# Altium footprint library OWMR.PcbLib: 36 footprints (part 1 of 3)
Each footprint in its own frame and in the unit in brackets; x right, y up, seen from the top. Pads: shape width x height; smd on the part's side, far side on the other; paste and mask are expansions set on the pad; w line width, h text height; cw(c..) or ccw(c..) is an arc to the next point about the centre after c.
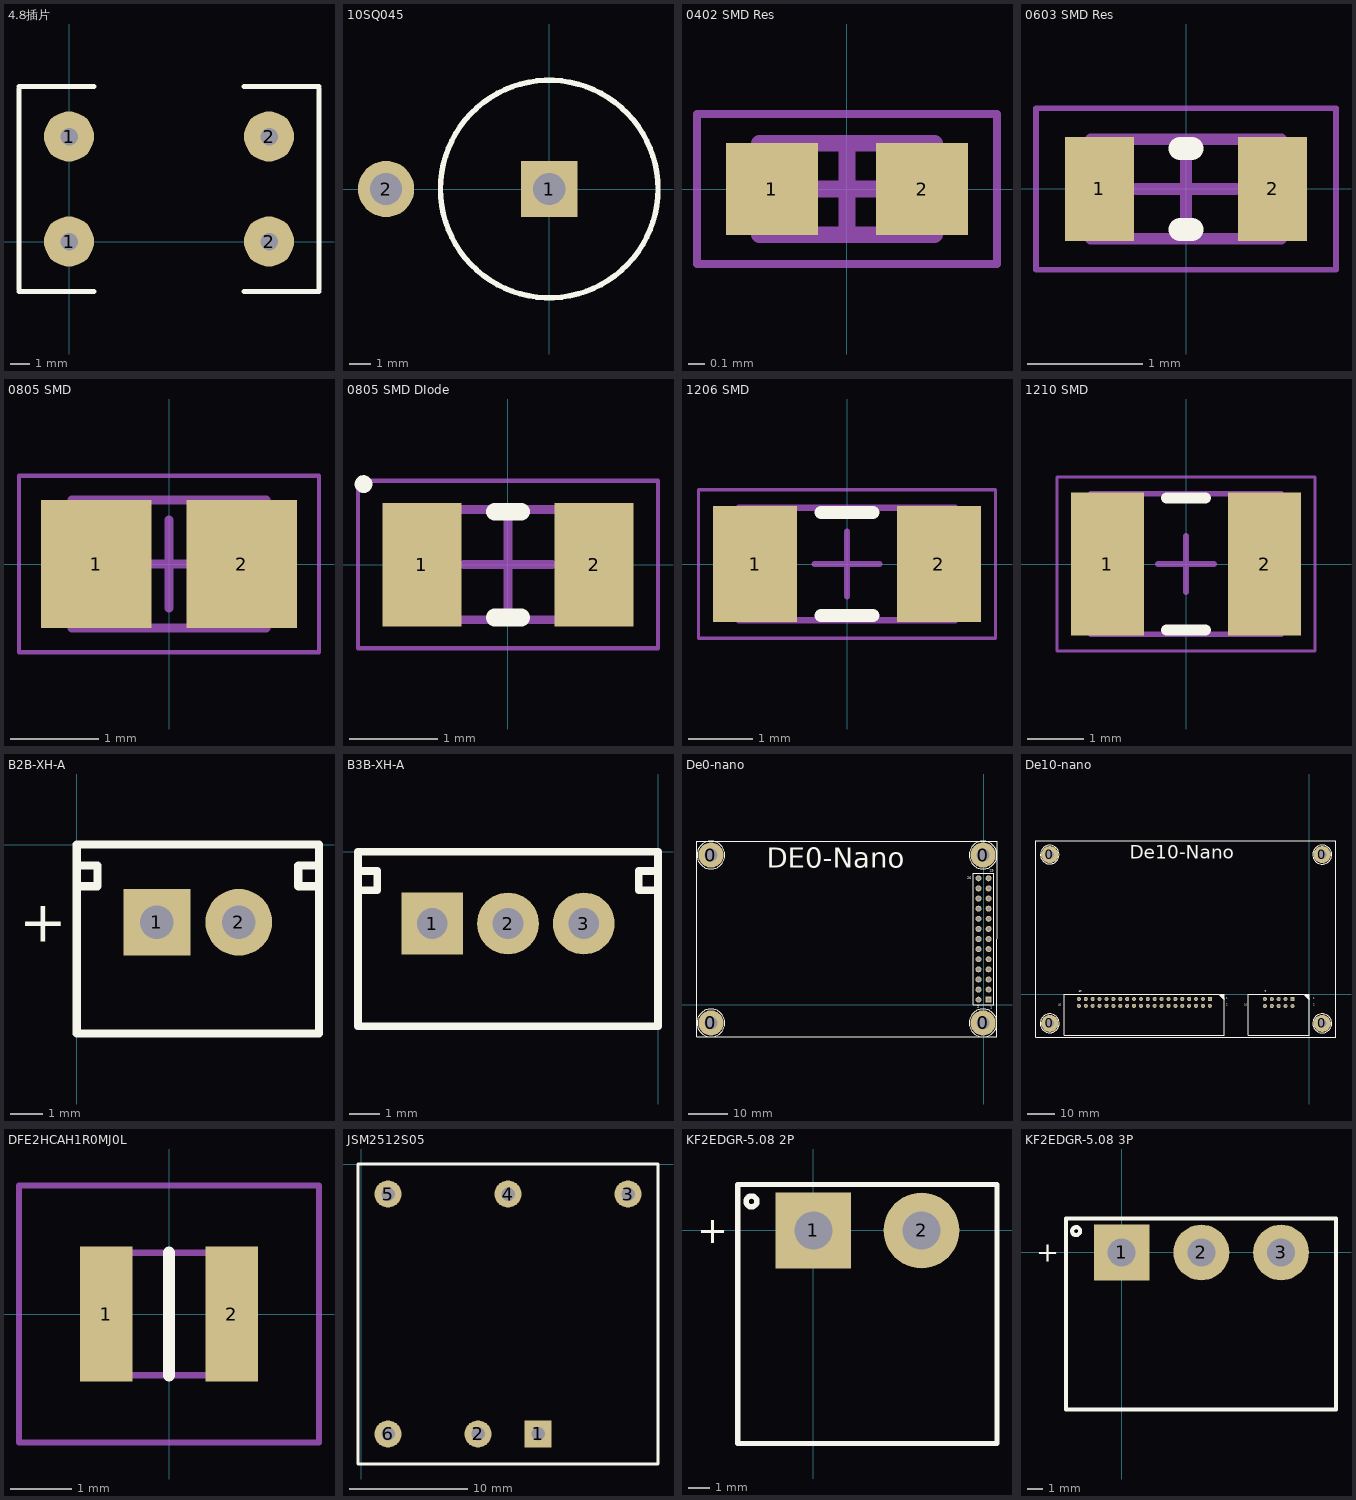
[diagram p0: the footprints below, top view; thin cyan lines are the x and y axes]

## 4.8插片 [mil]
pads (4):
  round 100 hole 35 square: 1(0,0) 1(0,210) 2(400,0) 2(400,210)
Top Overlay:
  lines w10: -100,-100 50,-100 ; -100,-95 -100,305 ; -100,310 50,310 ; 350,-100 500,-100 ; 350,310 500,310 ; 500,-95 500,305

## 10SQ045 [mm] "45V 10A Schottky Diode"
pads (2):
  rect 2.625x2.625 hole 1.5: 1(0,0)
  round 2.625 hole 1.5: 2(-7.62,0)
Top Overlay:
  circle w0.254: c0,0 r5.08

## 0402 SMD Res [mm] "Chip Resistor, 2-Leads, Body 1.00x0.50mm, IPC Medium Density"
height 0.37
pads (2):
  rect 0.55x0.55 smd: 1(-0.45,0) 2(0.45,0)
Mechanical 13:
  lines w0.1: -0.525,-0.275 -0.525,0.275 0.525,0.275 0.525,-0.275 -0.525,-0.275
Mechanical 15:
  lines w0.05: -0.9,-0.45 -0.9,0.45 0.9,0.45 0.9,-0.45 -0.9,-0.45
  lines w0.1: -0.275,0 0.275,0 ; 0,-0.275 0,0.275
3D body "RESC1005X04N.step": height 0.37, standoff 0, extent -0.525,-0.275 0.525,0.275

## 0603 SMD Res [mm] "Chip Resistor, 2-Leads, Body 1.58x0.85mm, IPC Medium Density"
height 0.5
pads (2):
  rect 0.6x0.9 smd: 1(-0.75,0) 2(0.75,0)
Top Overlay:
  lines w0.2: -0.05,-0.35 0.05,-0.35 ; -0.05,0.35 0.05,0.35
Mechanical 13:
  lines w0.1: -0.825,-0.43 0.825,-0.43 0.825,0.43 -0.825,0.43 -0.825,-0.43
Mechanical 15:
  lines w0.05: -1.3,-0.7 1.3,-0.7 1.3,0.7 -1.3,0.7 -1.3,-0.7
  lines w0.1: -0.43,0 0.43,0 ; 0,-0.43 0,0.43
3D body: height 0.5, standoff 0, extent 0.525,-0.43 0.825,0.43
3D body: height 0.5, standoff 0, extent -0.825,-0.43 -0.525,0.43
3D body: height 0.5, standoff 0, extent -0.525,-0.43 0.525,0.43

## 0805 SMD [mm]
height 0.95
pads (2):
  rect 1.25x1.45 smd: 1(-0.825,0) 2(0.825,0)
Mechanical 13:
  lines w0.1: -1.1,-0.725 1.1,-0.725 1.1,0.725 -1.1,0.725 -1.1,-0.725
Mechanical 15:
  lines w0.05: -1.7,-1 1.7,-1 1.7,1 -1.7,1 -1.7,-1
  lines w0.1: -0.5,0 0.5,0 ; 0,-0.5 0,0.5
3D body: height 0.95, standoff 0, extent 0.6,-0.725 1.1,0.725
3D body: height 0.95, standoff 0, extent -1.1,-0.725 -0.6,0.725
3D body: height 0.95, standoff 0, extent -0.6,-0.725 0.6,0.725

## 0805 SMD DIode [mm] "Chip Diode, 2-Leads, Body 2.00x1.25mm, IPC Medium Density"
height 1
pads (2):
  rect 0.9x1.4 smd: 1(-0.975,0) 2(0.975,0)
Top Overlay:
  circle w0.1: c-1.637,0.912 r0.05
  lines w0.2: -0.15,-0.6 0.15,-0.6 ; -0.15,0.6 0.15,0.6
Mechanical 13:
  lines w0.1: -1,-0.625 -1,0.625 1,0.625 1,-0.625 -1,-0.625
Mechanical 15:
  lines w0.05: -1.7,-0.95 -1.7,0.95 1.7,0.95 1.7,-0.95 -1.7,-0.95
  lines w0.1: -0.5,0 0.5,0 ; 0,-0.5 0,0.5
3D body: height 1, standoff 0, extent -0.6,-0.625 0.6,0.625
3D body: height 1, standoff 0, extent -1,-0.625 -0.6,0.625
3D body: height 1, standoff 0, extent 0.6,-0.625 1,0.625

## 1206 SMD [mm]
height 1.35
pads (2):
  rect 1.3x1.8 smd: 1(-1.425,0) 2(1.425,0)
Top Overlay:
  lines w0.2: -0.4,-0.8 0.4,-0.8 ; -0.4,0.8 0.4,0.8
Mechanical 13:
  lines w0.1: -1.675,-0.875 -1.675,0.875 1.675,0.875 1.675,-0.875 -1.675,-0.875
Mechanical 15:
  lines w0.05: -2.3,-1.15 -2.3,1.15 2.3,1.15 2.3,-1.15 -2.3,-1.15
  lines w0.1: -0.5,0 0.5,0 ; 0,-0.5 0,0.5
3D body: height 1.35, standoff 0, extent -1.175,-0.875 1.175,0.875
3D body: height 1.35, standoff 0, extent -1.675,-0.875 -1.175,0.875
3D body: height 1.35, standoff 0, extent 1.175,-0.875 1.675,0.875

## 1210 SMD [mm]
height 1.4
pads (2):
  rect 1.3x2.55 smd: 1(-1.4,0) 2(1.4,0)
Top Overlay:
  lines w0.2: -0.35,-1.175 0.35,-1.175 ; -0.35,1.175 0.35,1.175
Mechanical 13:
  lines w0.1: -1.7,-1.25 -1.7,1.25 1.7,1.25 1.7,-1.25 -1.7,-1.25
Mechanical 15:
  lines w0.05: -2.3,-1.55 -2.3,1.55 2.3,1.55 2.3,-1.55 -2.3,-1.55
  lines w0.1: -0.5,0 0.5,0 ; 0,-0.5 0,0.5
3D body: height 1.4, standoff 0, extent -1.2,-1.25 1.2,1.25
3D body: height 1.4, standoff 0, extent -1.7,-1.25 -1.2,1.25
3D body: height 1.4, standoff 0, extent 1.2,-1.25 1.7,1.25

## B2B-XH-A [mil] "XH Header-top 2P"
pads (2):
  rect 80x80 hole 40: 1(96,-93)
  round 80 hole 40: 2(194,-93)
Top Overlay:
  lines w10: 0,-50 25,-50 25,-25 0,-25 ; 290,-50 265,-50 265,-25 290,-25 ; 0,-226 290,-226 290,0 0,0 0,-226
  text "+" at -69,-116.33 h50

## B3B-XH-A [mil] "XH Header-top 3P"
pads (3):
  rect 80x80 hole 40: 1(-292,-93)
  round 80 hole 40: 2(-194,-93) 3(-96,-93)
Top Overlay:
  lines w10: -388,-50 -363,-50 -363,-25 -388,-25 ; 0,-50 -25,-50 -25,-25 0,-25 ; -388,-226 0,-226 0,0 -388,0 -388,-226

## De0-nano [mm]
pads (30):
  round 6.35 hole 3.2: 0(-68.453,-4.572) 0(-68.453,37.592) 0(-0.127,-4.572) 0(-0.127,37.592)
  rect 1.5x1.5 hole 0.9: 1(1.27,1.27)
  round 1.5 hole 0.9: 2(-1.27,1.27) 3(1.27,3.81) 4(-1.27,3.81) 5(1.27,6.35) 6(-1.27,6.35) 7(1.27,8.89) 8(-1.27,8.89) 9(1.27,11.43) 10(-1.27,11.43) 11(1.27,13.97) 12(-1.27,13.97) 13(1.27,16.51) 14(-1.27,16.51) 15(1.27,19.05) 16(-1.27,19.05) 17(1.27,21.59) 18(-1.27,21.59) 19(1.27,24.13) 20(-1.27,24.13) 21(1.27,26.67) 22(-1.27,26.67) 23(1.27,29.21) 24(-1.27,29.21) 25(1.27,31.75) 26(-1.27,31.75)
Top Overlay:
  circle w0.254: c-0.127,37.592 r3.504
  circle w0.254: c-68.453,-4.572 r3.504
  circle w0.254: c-0.127,-4.572 r3.504
  circle w0.254: c-68.453,37.592 r3.504
  lines w0.2: -2.54,0 -2.54,33.02 2.54,33.02 2.54,0 -2.54,0
  lines w0.254: -71.957,-8.076 -71.957,41.096 3.377,41.096 3.377,-8.076 -71.957,-8.076
  text "25" at 1.547,33.428 h0.64
  text "26" at -4.092,31.512 h0.64
  text "1" at 1.627,-1.068 h0.64
  text "2" at -1.644,-0.874 h0.64
  text "DE0-Nano" at -54.453,34.428 h5
Bottom Overlay:
  circle w0.254: c-68.453,-4.572 r3.504
  circle w0.254: c-0.127,-4.572 r3.504
  circle w0.254: c-68.453,37.592 r3.504
  circle w0.254: c-0.127,37.592 r3.504

## De10-nano [mm]
pads (54):
  round 6.35 hole 3.2: 0(-95.7,-10.7) 0(-95.7,51.53) 0(4.74,-10.7) 0(4.74,51.53)
  rect 1.5x1.5 hole 0.9: 1(-6.23,-1.73) 11(-36.7,-1.7)
  round 1.5 hole 0.9: 2(-6.23,-4.27) 3(-8.77,-1.73) 4(-8.77,-4.27) 5(-11.31,-1.73) 6(-11.31,-4.27) 7(-13.85,-1.73) 8(-13.85,-4.27) 9(-16.39,-1.73) 10(-16.39,-4.27) 12(-36.7,-4.24) 13(-39.24,-1.7) 14(-39.24,-4.24) 15(-41.78,-1.7) 16(-41.78,-4.24) 17(-44.32,-1.7) 18(-44.32,-4.24) 19(-46.86,-1.7) 20(-46.86,-4.24) 21(-49.4,-1.7) 22(-49.4,-4.24) 23(-51.94,-1.7) 24(-51.94,-4.24) 25(-54.48,-1.7) 26(-54.48,-4.24) 27(-57.02,-1.7) 28(-57.02,-4.24) 29(-59.56,-1.7) 30(-59.56,-4.24) 31(-62.1,-1.7) 32(-62.1,-4.24) 33(-64.64,-1.7) 34(-64.64,-4.24) 35(-67.18,-1.7) 36(-67.18,-4.24) 37(-69.72,-1.7) 38(-69.72,-4.24) 39(-72.26,-1.7) 40(-72.26,-4.24) 41(-74.8,-1.7) 42(-74.8,-4.24) 43(-77.34,-1.7) 44(-77.34,-4.24) 45(-79.88,-1.7) 46(-79.88,-4.24) 47(-82.42,-1.7) 48(-82.42,-4.24) 49(-84.96,-1.7) 50(-84.96,-4.24)
Top Overlay:
  circle w0.254: c4.74,-10.7 r3.502
  circle w0.254: c4.74,51.53 r3.504
  circle w0.254: c-95.7,51.53 r3.441
  circle w0.254: c-95.7,-10.7 r3.486
  lines w0.254: -32.62,0.03 -32.62,-0.22 ; -32.37,0.03 -32.37,-0.47 ; -32.12,0.03 -32.12,-0.72 -31.37,-0.72 ; -31.87,0.03 -31.87,-0.97 ; -31.62,0.03 -31.62,-1.22 ; -31.37,-1.22 -31.62,-1.22 ; -31.37,-0.97 -31.87,-0.97 ; -31.37,-0.47 -32.37,-0.47 ; -31.37,-0.22 -32.62,-0.22 ; -1.25,0 -1.25,-0.25 0,-0.25 ; -1,0 -1,-0.5 0,-0.5 ; -0.75,0 -0.75,-0.75 0,-0.75 ; -0.5,0 -0.5,-1 0,-1 ; -0.25,0 -0.25,-1.25 0,-1.25 ; -32.62,-0.22 -32.37,-0.47 ; -31.87,-0.97 -31.62,-1.22 ; -100.78,-15.78 9.82,-15.78 9.82,56.61 -100.78,56.61 -100.78,-15.78 ; -90.29,-15.08 -90.29,0.03 -33.37,0.03 -31.37,-1.97 -31.37,-15.08 -90.29,-15.08 ; -32.87,0.03 -31.37,-1.47 -31.37,0.03 -32.87,0.03 ; -22.62,-15.11 -22.62,0 -2,0 0,-2 0,-15.11 -22.62,-15.11 ; -1.5,0 0,-1.5 0,0 -1.5,0
  text "De10-Nano" at -66.19,50.07 h5
  text "40" at -92.59,-4.27 h0.64
  text "39" at -84.97,0.81 h0.64
  text "2" at 1.39,-4.27 h0.64
  text "1" at 1.39,-1.73 h0.64
  text "9" at -16.39,0.81 h0.64
  text "10" at -24.01,-4.27 h0.64
  text "2" at -30.63,-4.27 h0.64
  text "1" at -30.63,-1.73 h0.64
Bottom Overlay:
  circle w0.254: c4.74,51.53 r3.504
  circle w0.254: c4.74,-10.7 r3.502
  circle w0.254: c-95.7,51.53 r3.441
  circle w0.254: c-95.7,-10.7 r3.486

## DFE2HCAH1R0MJ0L [mm]
pads (2):
  rect 0.85x2.2 smd: 1(-1.025,0) 2(1.025,0)
Top Overlay:
  lines w0.2: 0,-1 0,1
Mechanical 13:
  lines w0.1: -1.25,-1 1.25,-1 1.25,1 -1.25,1 -1.25,-1
Mechanical 15:
  lines w0.1: -2.45,-2.1 2.45,-2.1 2.45,2.1 -2.45,2.1 -2.45,-2.1
3D body "DFE2HCAH1R0MJ0L.stp": height 1.2, standoff 0, extent -1.25,-1 1.25,1

## JSM2512S05 [mil]
pads (6):
  rect 90x90 hole 45: 1(590,-900)
  round 90 hole 45: 2(390,-900) 3(890,-100) 4(490,-100) 5(90,-100) 6(90,-900)
Top Overlay:
  lines w10: -10,-1000 990,-1000 990,0 -10,0 -10,-1000

## KF2EDGR-5.08 2P [mil]
pads (2):
  rect 140x140 hole 70: 1(0,0)
  round 140 hole 70: 2(200,0)
Top Overlay:
  circle w10: c-114.37,53.74 r10
  lines w10: -139.37,-393.7 339.37,-393.7 339.37,85 -139.37,85 -139.37,-393.7
  text "+" at -215,-23.33 h50

## KF2EDGR-5.08 3P [mil]
pads (3):
  rect 140x140 hole 70: 1(0,0)
  round 140 hole 70: 2(200,0) 3(400,0)
Top Overlay:
  circle w10: c-114.37,53.74 r10
  lines w10: -139.37,-393.7 -139.37,85 537.8,85 537.8,-393.7 -139.37,-393.7
  text "+" at -215,-23.33 h50